# EAGLE library part 74*53 (library dec-con)
4-2-3-2 input AND OR INVERTER gates
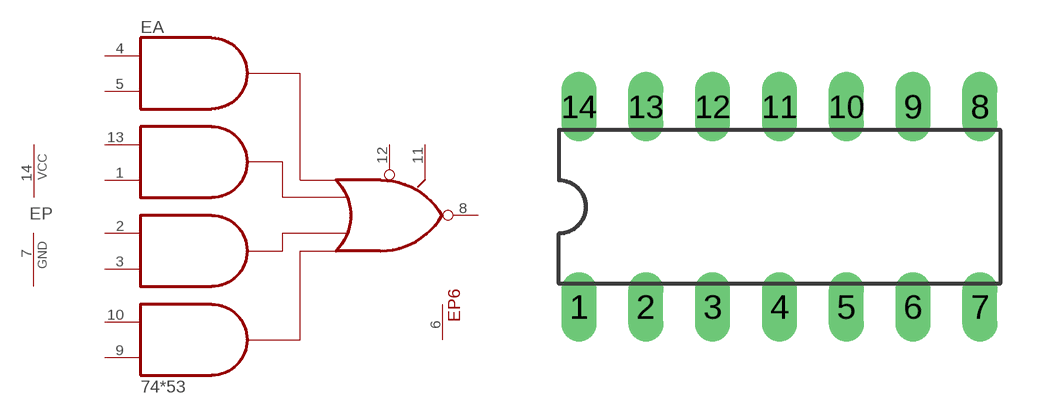
[diagram p86: symbol with the pads of DIL14; footprint DIL14]

Designator prefix E; gates P=PWRN A=7453 P6=SPAREPIN

## 7453N, 74LS53N  [DIL14]
1  A:I4  in
2  A:I5  in
3  A:I6  in
4  A:I1  in
5  A:I2  in
6  P6:SPARE  pas
7  P:GND  pwr
8  A:O  out
9  A:I8  in
10  A:I7  in
11  A:I10  pas
12  A:I9  pas
13  A:I3  in
14  P:VCC  pwr

## Footprint DIL14 (pad centres in mm)
Dual In Line Package
drill 0.813 long: 1 -7.62,-3.81; 2 -5.08,-3.81; 3 -2.54,-3.81; 4 0,-3.81; 5 2.54,-3.81; 6 5.08,-3.81; 7 7.62,-3.81; 8 7.62,3.81; 9 5.08,3.81; 10 2.54,3.81; 11 0,3.81; 12 -2.54,3.81; 13 -5.08,3.81; 14 -7.62,3.81